# Altium footprint library FPGA_breakout_board_v1.PcbLib: 33 footprints (part 2 of 3)
Each footprint in its own frame and in the unit in brackets; x right, y up, seen from the top. Pads: shape width x height; smd on the part's side, far side on the other; paste and mask are expansions set on the pad; w line width, h text height; cw(c..) or ccw(c..) is an arc to the next point about the centre after c.
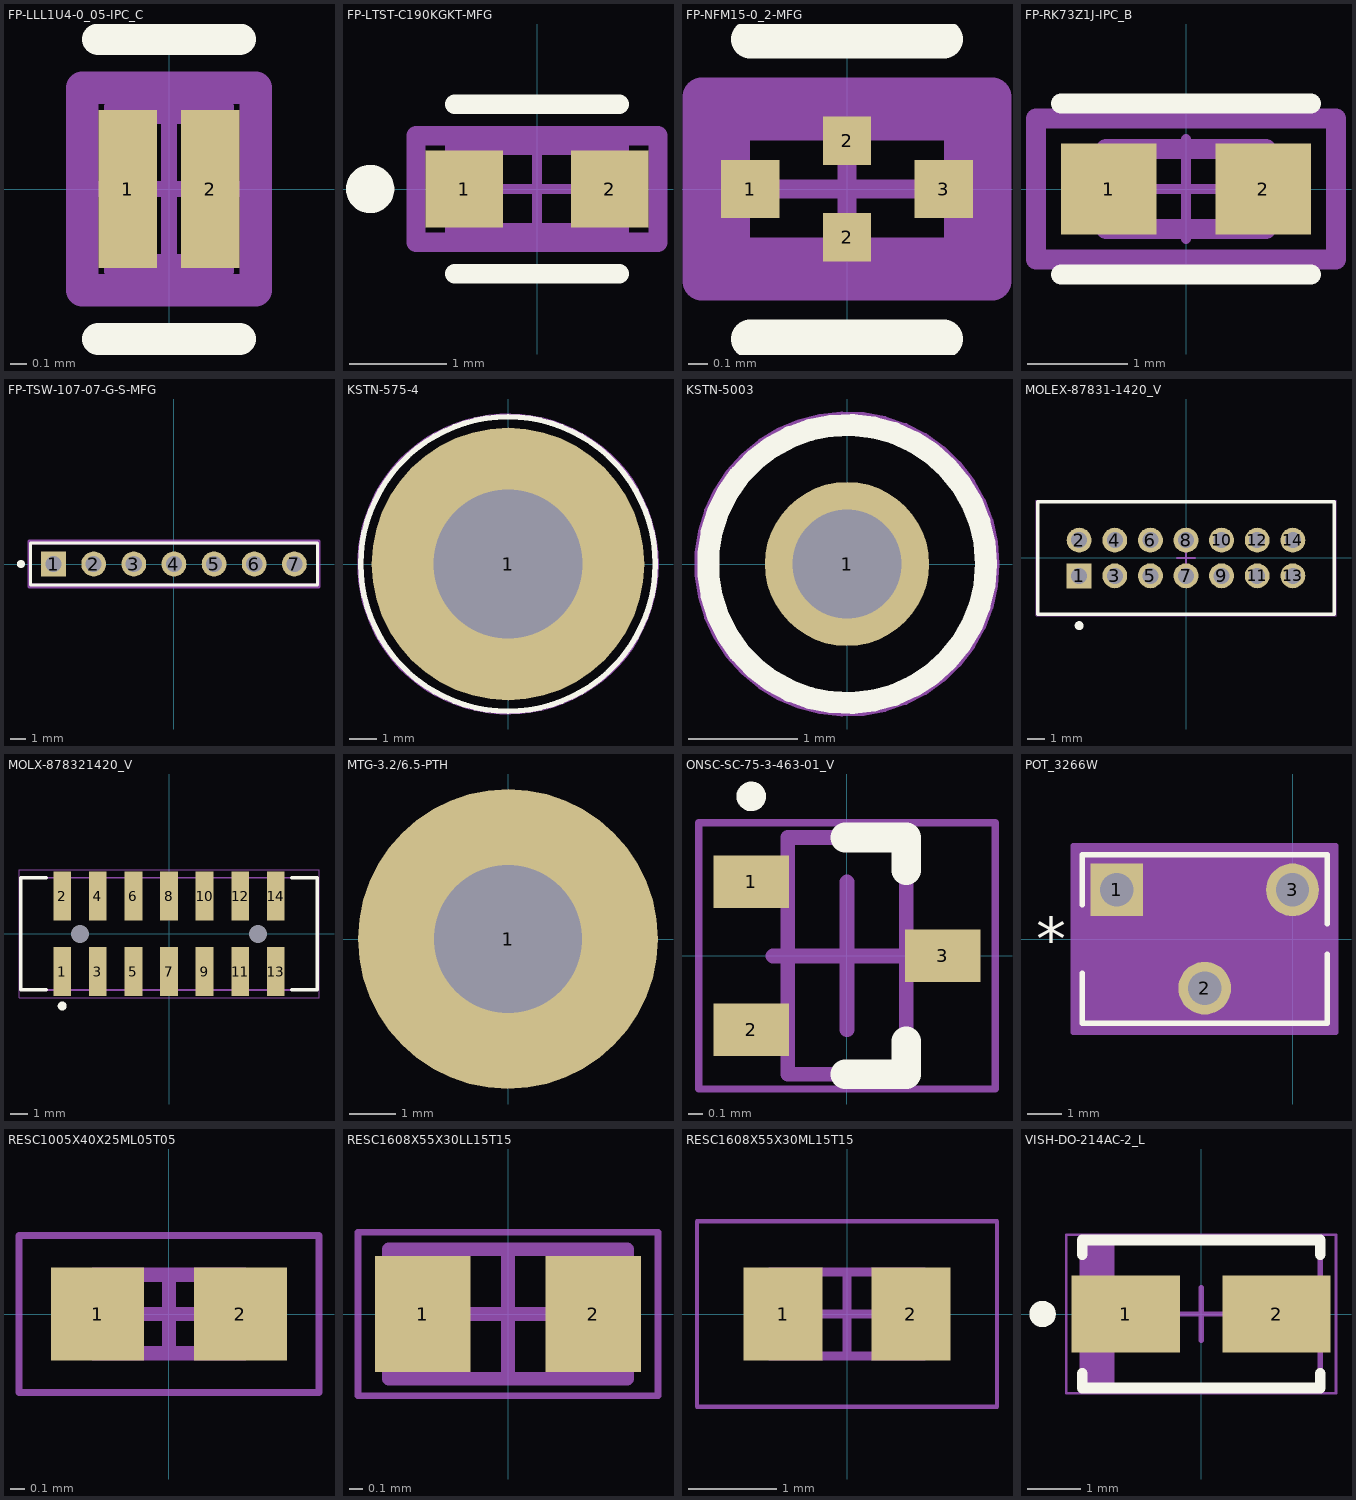
[diagram p1: the footprints below, top view; thin cyan lines are the x and y axes]

## FP-LLL1U4-0_05-IPC_C [mm]
pads (2):
  rect 0.361x0.972 smd paste+0 mask+0: 1(-0.256,0) 2(0.256,0)
Top Overlay:
  lines w0.2: -0.436,-0.925 0.436,-0.925 ; -0.436,0.925 0.436,0.925
Top Assembly:
  lines w0.2: -0.536,-0.625 0.536,-0.625 0.536,0.625 -0.536,0.625 -0.536,-0.625
  text ".Designator" at 0,0.188 h1
Top 3D Body:
  lines w0.2: -0.3,-0.5 0.3,-0.5 0.3,0.5 -0.3,0.5 -0.3,-0.5
Top Courtyard:
  lines w0.2: -0.536,-0.625 0.536,-0.625 0.536,0.625 -0.536,0.625 -0.536,-0.625
Top Component Center:
  lines w0.1: -0.5,0 0.5,0 ; 0,-0.5 0,0.5
3D body "Cap_Murata_LLL1U4D80E435ME22D_eec.STEP": height 0.25, standoff 0, extent -0.536,-0.625 0.536,0.625

## FP-LTST-C190KGKT-MFG [mm]
pads (2):
  rect 0.8x0.8 smd paste+0 mask+0: 1(-0.75,0) 2(0.75,0)
Top Overlay:
  circle w0.25: c-1.725,0 r0.125
  lines w0.2: -0.85,-0.875 0.85,-0.875 ; -0.85,0.875 0.85,0.875
Top Assembly:
  lines w0.2: -1.25,-0.55 1.25,-0.55 1.25,0.55 -1.25,0.55 -1.25,-0.55
  text ".Designator" at 0,-0.001 h1
Top 3D Body:
  lines w0.2: -0.85,-0.45 0.85,-0.45 0.85,0.45 -0.85,0.45 -0.85,-0.45
Top Courtyard:
  lines w0.2: -1.25,-0.55 1.25,-0.55 1.25,0.55 -1.25,0.55 -1.25,-0.55
Top Component Center:
  lines w0.1: -0.5,0 0.5,0 ; 0,-0.5 0,0.5
3D body "Diode_Lite-On_LTST-C190KGKT_eec.STEP": height 0.25, standoff 0, extent -1.25,-0.55 1.25,0.55

## FP-NFM15-0_2-MFG [mm]
pads (4):
  rect 0.3x0.3 smd paste+0 mask+0: 1(-0.5,0) 3(0.5,0)
  rect 0.25x0.25 smd paste+0 mask+0: 2(0,-0.25) 2(0,0.25)
Top Overlay:
  lines w0.2: -0.5,-0.775 0.5,-0.775 ; -0.5,0.775 0.5,0.775
Top Assembly:
  lines w0.2: -0.75,-0.475 0.75,-0.475 0.75,0.475 -0.75,0.475 -0.75,-0.475
Top 3D Body:
  lines w0.2: -0.6,-0.35 0.6,-0.35 0.6,0.35 -0.6,0.35 -0.6,-0.35
Top Courtyard:
  lines w0.2: -0.75,-0.475 0.75,-0.475 0.75,0.475 -0.75,0.475 -0.75,-0.475
Top Component Center:
  lines w0.1: -0.5,0 0.5,0 ; 0,-0.5 0,0.5
3D body "Cap_Murata_NFM15PC915R0G3D_eec.STEP": height 0.25, standoff 0, extent -0.75,-0.475 0.75,0.475

## FP-RK73Z1J-IPC_B [mm]
pads (2):
  rect 0.956x0.912 smd paste+0 mask+0: 1(-0.775,0) 2(0.775,0)
Top Overlay:
  lines w0.2: -1.253,-0.856 1.253,-0.856 ; -1.253,0.856 1.253,0.856
Top Assembly:
  lines w0.2: -1.503,-0.706 1.503,-0.706 1.503,0.706 -1.503,0.706 -1.503,-0.706
Top 3D Body:
  lines w0.2: -0.8,-0.4 0.8,-0.4 0.8,0.4 -0.8,0.4 -0.8,-0.4
Top Courtyard:
  lines w0.2: -1.503,-0.706 1.503,-0.706 1.503,0.706 -1.503,0.706 -1.503,-0.706
Top Component Center:
  lines w0.1: -0.5,0 0.5,0 ; 0,-0.5 0,0.5
3D body "Res_KOA_Speer_RK73Z1JTTD_eec.STEP": height 0.25, standoff 0, extent -1.503,-0.706 1.503,0.706

## FP-TSW-107-07-G-S-MFG [mm]
pads (7):
  rect 1.57x1.57 hole 1.02 paste-2539.97 mask+0: 1(-7.62,0)
  round 1.57 hole 1.02 paste-2539.97 mask+0: 2(-5.08,0) 3(-2.54,0) 4(0,0) 5(2.54,0) 6(5.08,0) 7(7.62,0)
Top Overlay:
  circle w0.25: c-9.68,0 r0.125
  lines w0.2: -9.08,-1.335 9.08,-1.335 9.08,1.335 -9.08,1.335 -9.08,-1.335
Top Assembly:
  lines w0.2: -9.18,-1.435 9.18,-1.435 9.18,1.435 -9.18,1.435 -9.18,-1.435
  text ".Designator" at 0,0.188 h1
Top 3D Body:
  lines w0.2: -9.08,-1.335 9.08,-1.335 9.08,1.335 -9.08,1.335 -9.08,-1.335
Top Courtyard:
  lines w0.2: -9.18,-1.435 9.18,-1.435 9.18,1.435 -9.18,1.435 -9.18,-1.435
Top Component Center:
  lines w0.1: -0.5,0 0.5,0 ; 0,-0.5 0,0.5
3D body "Conn_SAMTEC_TSW-107-07-G-S_eec.STEP": height 0.25, standoff 0, extent -9.18,-1.435 9.18,1.435

## KSTN-575-4 [mm]
pads (1):
  round 10 hole 5.45: 1(0,0)
Top Overlay:
  circle w0.2: c0,0 r5.4
Bottom Overlay:
  circle w0.2: c0,0 r5.4
Top 3D Body:
  circle w0.1: c-0.031,-0.008 r2.095
  circle w0.1: c-0.031,-0.008 r3.96
Top Courtyard:
  circle w0.05: c0,0 r5.5
  lines w0.1: -0.5,0 0.5,0 ; 0,-0.5 0,0.5
3D body "Keystone_575-4.stp": height 2.36, standoff -5.5, extent -3.981,-3.957 3.919,3.941

## KSTN-5003 [mm]
pads (1):
  round 1.5 hole 1: 1(0,0)
Top Overlay:
  circle w0.2: c0,0 r1.27
Top 3D Body:
  circle w0.1: c0,0 r1.27
Top Courtyard:
  circle w0.05: c0,0 r1.37
  lines w0.1: -0.5,0 0.5,0 ; 0,-0.5 0,0.5
3D body "User Library-Test Point Keystone - 5003 ORANGE.STEP": height 4.57, standoff -3.05, extent -1.27,-1.27 1.27,1.27

## MOLEX-87831-1420_V [mm]
pads (14):
  rect 1.4x1.4 hole 0.9: 1(-6,-1)
  round 1.4 hole 0.9: 2(-6,1) 3(-4,-1) 4(-4,1) 5(-2,-1) 6(-2,1) 7(0,-1) 8(0,1) 9(2,-1) 10(2,1) 11(4,-1) 12(4,1) 13(6,-1) 14(6,1)
Top Overlay:
  circle w0.25: c-6,-3.8 r0.125
  lines w0.2: -8.325,-3.15 8.325,-3.15 8.325,3.15 -8.325,3.15 -8.325,-3.15
Top 3D Body:
  lines w0.1: -8.325,-3.15 -8.325,3.15 8.325,3.15 8.325,-3.15 -8.325,-3.15
Top Courtyard:
  lines w0.05: -8.425,-3.25 8.425,-3.25 8.425,3.25 -8.425,3.25 -8.425,-3.25
  lines w0.1: -0.5,0 0.5,0 ; 0,-0.5 0,0.5
3D body "878311420.stp": height 6.2, standoff -2.7, extent -8.325,-3.15 8.325,3.15

## MOLX-878321420_V [mm]
pads (16):
  rect 1x2.75 smd: 1(-6,-2.125) 2(-6,2.125) 3(-4,-2.125) 4(-4,2.125) 5(-2,-2.125) 6(-2,2.125) 7(0,-2.125) 8(0,2.125) 9(2,-2.125) 10(2,2.125) 11(4,-2.125) 12(4,2.125) 13(6,-2.125) 14(6,2.125)
  round 0.5 hole 1 unplated: MH1(-5,0) MH2(5,0)
Top Overlay:
  circle w0.25: c-6,-4.05 r0.125
  lines w0.2: -6.9,-3.15 -8.325,-3.15 -8.325,3.15 -6.9,3.15 ; 6.9,-3.15 8.325,-3.15 8.325,3.15 6.9,3.15
Top 3D Body:
  lines w0.1: -8.325,-3.15 -8.325,3.15 8.325,3.15 8.325,-3.15 -8.325,-3.15
Top Courtyard:
  lines w0.05: -8.425,-3.6 -8.425,3.6 8.425,3.6 8.425,-3.6 -8.425,-3.6
3D body "878321420.stp": height 7.6, standoff -0.75, extent -8.325,-3.15 8.325,3.15

## MTG-3.2/6.5-PTH [mm]
pads (1):
  round 6.5 hole 3.2: 1(0,0)

## ONSC-SC-75-3-463-01_V [mil]
pads (3):
  rect 20x14.02 smd: 1(-25.49,19.68) 2(-25.49,-19.69) 3(25.49,0)
Top Overlay:
  circle w3.94: c-25.47,42.44 r1.97
  lines w7.87: -0.5,-31.5 15.75,-31.5 15.75,-22.76 ; -0.5,31.5 15.75,31.5 15.75,22.76
Top 3D Body:
  lines w3.94: -15.75,-31.5 -15.75,31.5 15.75,31.5 15.75,-31.5 -15.75,-31.5
Top Courtyard:
  lines w1.97: -39.43,-35.43 -39.43,35.43 39.43,35.43 39.43,-35.43 -39.43,-35.43
  lines w3.94: -19.68,0 19.69,0 ; 0,-19.69 0,19.68
3D body: height 35.43, standoff 0, extent -15.75,-31.5 15.75,31.5

## POT_3266W [mil]
pads (3):
  rect 60x60 / inner round 60 / far side rect 60x60 hole 38 paste-99999 mask-30: 1(-200,56)
  round 60 hole 38 paste-99999 mask-30: 2(-100,-56) 3(0,56)
Top Overlay:
  lines w6: -239.5,-39.02 -239.5,-96 39.5,-96 39.5,-17.24 ; -239.5,39.02 -239.5,96 39.5,96 39.5,17.24
  text "*" at -292,-25 h50
Top 3D Body:
  lines w1: -239.5,-96 -239.5,96 39.5,96 39.5,-96 -239.5,-96
  text "*" at -292,-25 h50
Top Courtyard:
  region: 49.5,-106 -249.5,-106 -249.5,106 49.5,106
  lines w6: -249.5,-106 49.5,-106 49.5,106 -249.5,106 -249.5,-106

## RESC1005X40X25ML05T05 [mm]
pads (2):
  rect 0.65x0.65 smd: 1(-0.5,0) 2(0.5,0)
Top 3D Body:
  lines w0.1: -0.525,-0.275 -0.525,0.275 0.525,0.275 0.525,-0.275 -0.525,-0.275
Top Courtyard:
  lines w0.05: -1.05,-0.55 -1.05,0.55 1.05,0.55 1.05,-0.55 -1.05,-0.55
  lines w0.1: -0.275,0 0.275,0 ; 0,-0.275 0,0.275
3D body "RESC1005X04M.step": height 0.4, standoff 0, extent -0.525,-0.275 0.525,0.275

## RESC1608X55X30LL15T15 [mm]
pads (2):
  rect 0.7x0.85 smd: 1(-0.625,0) 2(0.625,0)
Top 3D Body:
  lines w0.1: -0.875,-0.475 0.875,-0.475 0.875,0.475 -0.875,0.475 -0.875,-0.475
Top Courtyard:
  lines w0.05: -1.1,-0.6 1.1,-0.6 1.1,0.6 -1.1,0.6 -1.1,-0.6
  lines w0.1: -0.475,0 0.475,0 ; 0,-0.475 0,0.475
3D body: height 0.55, standoff 0, extent 0.575,-0.475 0.875,0.475
3D body: height 0.55, standoff 0, extent -0.875,-0.475 -0.575,0.475
3D body: height 0.55, standoff 0, extent -0.575,-0.475 0.575,0.475

## RESC1608X55X30ML15T15 [mm]
pads (2):
  rect 0.9x1.05 smd: 1(-0.725,0) 2(0.725,0)
Top 3D Body:
  lines w0.1: -0.875,-0.475 0.875,-0.475 0.875,0.475 -0.875,0.475 -0.875,-0.475
Top Courtyard:
  lines w0.05: -1.7,-1.05 1.7,-1.05 1.7,1.05 -1.7,1.05 -1.7,-1.05
  lines w0.1: -0.475,0 0.475,0 ; 0,-0.475 0,0.475
3D body: height 0.55, standoff 0, extent 0.575,-0.475 0.875,0.475
3D body: height 0.55, standoff 0, extent -0.875,-0.475 -0.575,0.475
3D body: height 0.55, standoff 0, extent -0.575,-0.475 0.575,0.475

## VISH-DO-214AC-2_L [mm]
pads (2):
  rect 2.05x1.45 smd: 1(-1.425,0) 2(1.425,0)
Top Overlay:
  circle w0.25: c-3,0 r0.125
  lines w0.2: -2.25,-1.125 -2.25,-1.4 2.25,-1.4 2.25,-1.125 ; -2.25,1.125 -2.25,1.4 2.25,1.4 2.25,1.125
Top 3D Body:
  rectangle: -2.25,-1.395 -1.645,1.395
  lines w0.1: -2.25,-1.395 -2.25,1.395 2.25,1.395 2.25,-1.395 -2.25,-1.395
Top Courtyard:
  lines w0.05: -2.55,-1.5 -2.55,1.5 2.55,1.5 2.55,-1.5 -2.55,-1.5
  lines w0.1: -0.5,0 0.5,0 ; 0,-0.5 0,0.5
3D body: height 2.29, standoff 0, extent -2.25,-1.395 2.25,1.395